# Altium footprint library ONDULEUR.PcbLib: 11 footprints
Each footprint in its own frame and in the unit in brackets; x right, y up, seen from the top. Pads: shape width x height; smd on the part's side, far side on the other; paste and mask are expansions set on the pad; w line width, h text height; cw(c..) or ccw(c..) is an arc to the next point about the centre after c.
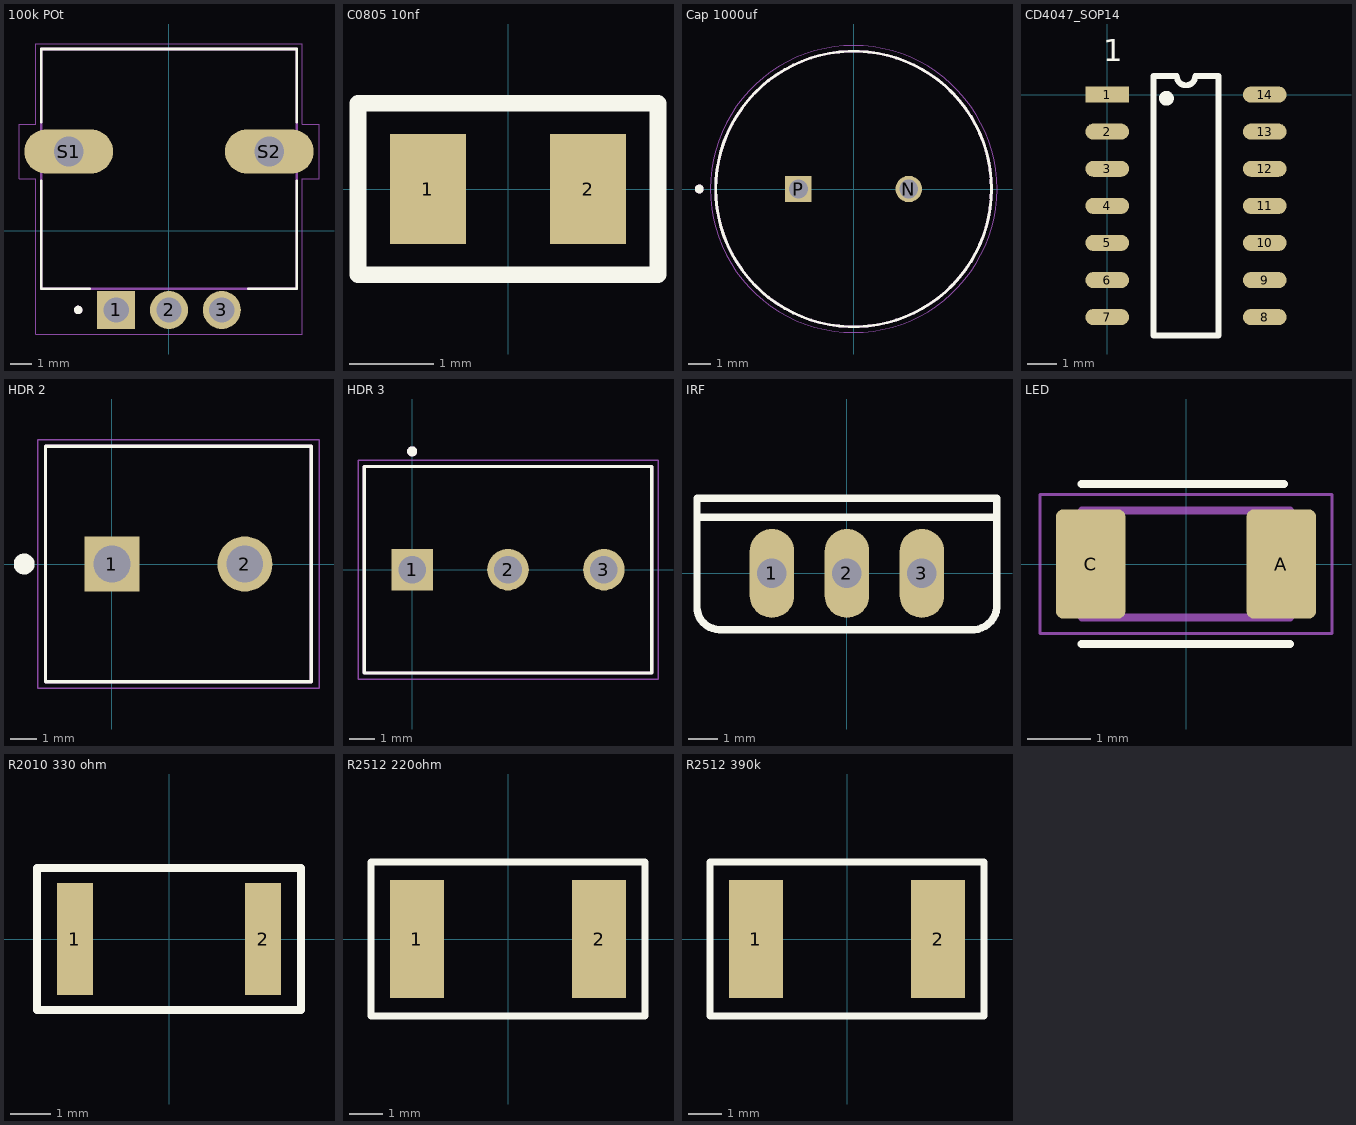
[diagram p0: the footprints below, top view; thin cyan lines are the x and y axes]

## 100k POt [mm]
pads (5):
  rect 1.8x1.8 hole 1.2: 1(-2.5,-3.75)
  round 1.8 hole 1.2: 2(0,-3.75) 3(2.5,-3.75)
  oval 4.2x2.1 hole 1.4 square: S1(-4.75,3.75) S2(4.75,3.75)
Top Overlay:
  circle w0.2: c-4.3,-3.75 r0.1
  lines w0.127: -6.05,2.35 -6.05,-2.75 -3.75,-2.75 ; -6.05,5.15 -6.05,8.6 6.05,8.6 6.05,5.15 ; 3.75,-2.75 6.05,-2.75 6.05,2.35
Mechanical 13:
  circle w0.2: c-4.3,-3.75 r0.1
  lines w0.127: -6.05,-2.75 -6.05,8.6 6.05,8.6 6.05,-2.75 -6.05,-2.75
Mechanical 15:
  lines w0.05: -7.1,2.45 -7.1,5.05 -6.3,5.05 -6.3,8.85 6.3,8.85 6.3,5.05 7.1,5.05 7.1,2.45 6.3,2.45 6.3,-4.9 -6.3,-4.9 -6.3,2.45 -7.1,2.45
3D body "step_temp.STEP": height 26, standoff -4, extent -6.048,-3.964 6.05,8.536

## C0805 10nf [mm]
pads (2):
  rect 0.9x1.3 smd: 1(-0.95,0) 2(0.95,0)
Top Overlay:
  lines w0.2: -1.778,-1.016 1.778,-1.016 1.778,1.016 -1.778,1.016 -1.778,-1.016
3D body "08053G334ZAT2A.STEP": height 1.4, standoff 0, extent -1.005,-0.625 1.005,0.625

## Cap 1000uf [mm]
pads (2):
  round 1.2 hole 0.85: N(2.5,0)
  rect 1.2x1.2 hole 0.85: P(-2.5,0)
Top Overlay:
  circle w0.127: c0,0 r6.25
  circle w0.2: c-7,0 r0.1
Mechanical 13:
  circle w0.127: c0,0 r6.25
  circle w0.2: c-7,0 r0.1
Mechanical 15:
  circle w0.05: c0,0 r6.5
3D body "step_temp.STEP": height 25, standoff -17, extent -6.25,-6.246 6.25,6.246

## CD4047_SOP14 [mm]
pads (14):
  rect 1.5x0.55 smd: 1(0,0)
  oval 1.5x0.55 smd: 2(0,-1.27) 3(0,-2.54) 4(0,-3.81) 5(0,-5.08) 6(0,-6.35) 7(0,-7.62) 8(5.4,-7.62) 9(5.4,-6.35) 10(5.4,-5.08) 11(5.4,-3.81) 12(5.4,-2.54) 13(5.4,-1.27) 14(5.4,0)
Top Overlay:
  circle w0.254: c2.032,-0.127 r0.127
  lines w0.2: 1.585,-8.255 3.815,-8.255 3.815,0.635 3.017,0.635 cw(c2.7,0.635) 2.382,0.635 1.585,0.635 1.585,-8.255
  text "1" at -0.127,1.143 h0.76
3D body "CD4047BM96.STEP": height 1.75, standoff 0, extent -0.333,-8.135 5.667,0.515

## HDR 2 [mm]
pads (2):
  rect 2.1x2.1 hole 1.4: 1(0,0)
  round 2.1 hole 1.4: 2(5.08,0)
Top Overlay:
  circle w0.4: c-3.35,0 r0.2
  lines w0.127: -2.54,-4.5 7.62,-4.5 7.62,4.5 -2.54,4.5 -2.54,-4.5
Mechanical 13:
  circle w0.4: c0,0 r0.2
  lines w0.127: -2.54,-4.5 7.62,-4.5 7.62,4.5 -2.54,4.5 -2.54,-4.5
Mechanical 15:
  lines w0.05: -2.83,-4.75 -2.83,4.75 7.91,4.75 7.91,-4.75 -2.83,-4.75
3D body "282841-2.stp": height 15.2, standoff -3.5, extent -2.79,-4.572 7.87,4.428

## HDR 3 [mm]
pads (3):
  rect 1.65x1.65 hole 1.1: 1(0,0)
  round 1.65 hole 1.1: 2(3.81,0) 3(7.62,0)
Top Overlay:
  circle w0.2: c0,4.7 r0.1
  lines w0.127: -1.9,-4.1 9.52,-4.1 9.52,4.1 -1.9,4.1 -1.9,-4.1
Mechanical 13:
  circle w0.2: c0,4.7 r0.1
  lines w0.127: -1.9,-4.1 9.52,-4.1 9.52,4.1 -1.9,4.1 -1.9,-4.1
Mechanical 15:
  lines w0.05: -2.15,-4.35 -2.15,4.35 9.77,4.35 9.77,-4.35 -2.15,-4.35
3D body "284392-3.stp": height 12.7, standoff -3.4, extent -2.151,-4.136 9.779,4.064

## IRF [mm]
pads (3):
  oval 1.508x3.016 hole 1: 1(-2.54,0) 2(0,0) 3(2.54,0)
Top Overlay:
  lines w0.254: 4.312,-1.905 ccw(c4.255,-1.079) 5.08,-1.022 ; 4.318,-1.905 -4.318,-1.905 cw(c-4.318,-1.143) -5.08,-1.143 -5.08,1.905 ; 5.08,-1.016 5.08,1.905 ; -5.08,1.905 -5.08,2.54 5.08,2.54 5.08,1.905 ; -5.08,1.905 5.08,1.905
Mechanical 13:
  lines w0.203: -5.08,1.905 -5.08,2.54 5.08,2.54 5.08,1.905 ; -4.318,-1.905 4.318,-1.905
3D body "irfz44npbf.stp": height 15.37, standoff -13.72, extent -5.08,-1.905 5.08,2.395

## LED [mm]
pads (2):
  rrect20% 1.1x1.73 smd: A(1.51,0) C(-1.51,0)
Top Overlay:
  lines w0.127: -1.651,-1.27 1.649,-1.27 ; -1.651,1.27 1.549,1.27
Mechanical 13:
  lines w0.127: -1.65,-0.85 -1.65,0.85 1.65,0.85 1.65,-0.85 -1.65,-0.85
Mechanical 15:
  lines w0.05: -2.31,-1.1 2.31,-1.1 2.31,1.1 -2.31,1.1 -2.31,-1.1
3D body "LTST-C230KRKT--3DModel-STEP-56544.STEP": height 1.1, standoff 0, extent -1.549,-0.8 1.651,0.8

## R2010 330 ohm [mm]
pads (2):
  rect 0.9x2.8 smd: 1(-2.35,0) 2(2.35,0)
Top Overlay:
  lines w0.2: -3.302,-1.778 3.302,-1.778 3.302,1.778 -3.302,1.778 -3.302,-1.778
3D body "RMCP2010FT330R.STEP": height 0.7, standoff 0, extent -2.5,-1.25 2.5,1.25

## R2512 220ohm [mm]
pads (2):
  rect 1.6x3.5 smd: 1(-2.7,0) 2(2.7,0)
Top Overlay:
  lines w0.2: -4.064,-2.286 -4.064,2.286 4.064,2.286 4.064,-2.286 -4.064,-2.286
3D body "RC2512FK-07220RL.STEP": height 0.65, standoff 0, extent -3.175,-1.55 3.175,1.55

## R2512 390k [mm]
pads (2):
  rect 1.6x3.5 smd: 1(-2.7,0) 2(2.7,0)
Top Overlay:
  lines w0.2: -4.064,-2.286 -4.064,2.286 4.064,2.286 4.064,-2.286 -4.064,-2.286
3D body "RC2512FK-07220RL.STEP": height 0.65, standoff 0, extent -3.048,-1.55 3.302,1.55